# Altium schematic symbol library SERVO.SchLib: 1 symbol
Pins are listed as number, name and electrical type; pins without a type are passive.

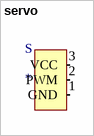
[diagram p0: symbol servo]

## servo
designator S
footprint DIP6
pins: 1 GND, 2 PWM, 3 VCC